# Altium footprint library XTAL_ECS-250-8-37B2-RWY-TR.PcbLib: 1 footprints
Each footprint in its own frame and in the unit in brackets; x right, y up, seen from the top. Pads: shape width x height; smd on the part's side, far side on the other; paste and mask are expansions set on the pad; w line width, h text height; cw(c..) or ccw(c..) is an arc to the next point about the centre after c.
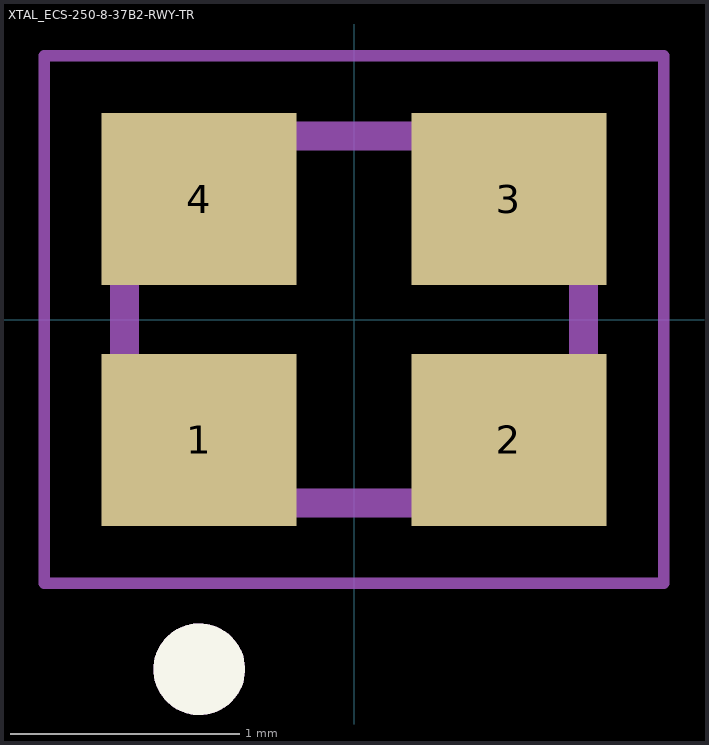
[diagram p0: the footprint, top view; thin cyan lines are the x and y axes]

## XTAL_ECS-250-8-37B2-RWY-TR [mm]
height 0.5
pads (4):
  rect 0.85x0.75 smd: 1(-0.675,-0.525) 2(0.675,-0.525) 3(0.675,0.525) 4(-0.675,0.525)
Top Overlay:
  circle w0.2: c-0.675,-1.525 r0.1
Assembly Top:
  circle w0.2: c-0.675,-1.525 r0.1
  lines w0.127: -1,-0.8 1,-0.8 1,0.8 -1,0.8 -1,-0.8
Courtyard Top:
  lines w0.05: -1.35,-1.15 1.35,-1.15 1.35,1.15 -1.35,1.15 -1.35,-1.15